# Altium schematic symbol library 5019.SchLib: 1 symbol
Pins are listed as number, name and electrical type; pins without a type are passive.

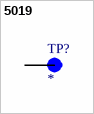
[diagram p0: symbol 5019]

## 5019
designator TP?
MF: {'manufacturer': u'Keystone Electronics'}; MP: 5019; Package: None; Price: None; Value: *; Availability: Unavailable
footprint KEYSTONE_5019
pins: TP